# Altium footprint library vtg regulator using TPS793.PcbLib: 9 footprints
Each footprint in its own frame and in the unit in brackets; x right, y up, seen from the top. Pads: shape width x height; smd on the part's side, far side on the other; paste and mask are expansions set on the pad; w line width, h text height; cw(c..) or ccw(c..) is an arc to the next point about the centre after c.
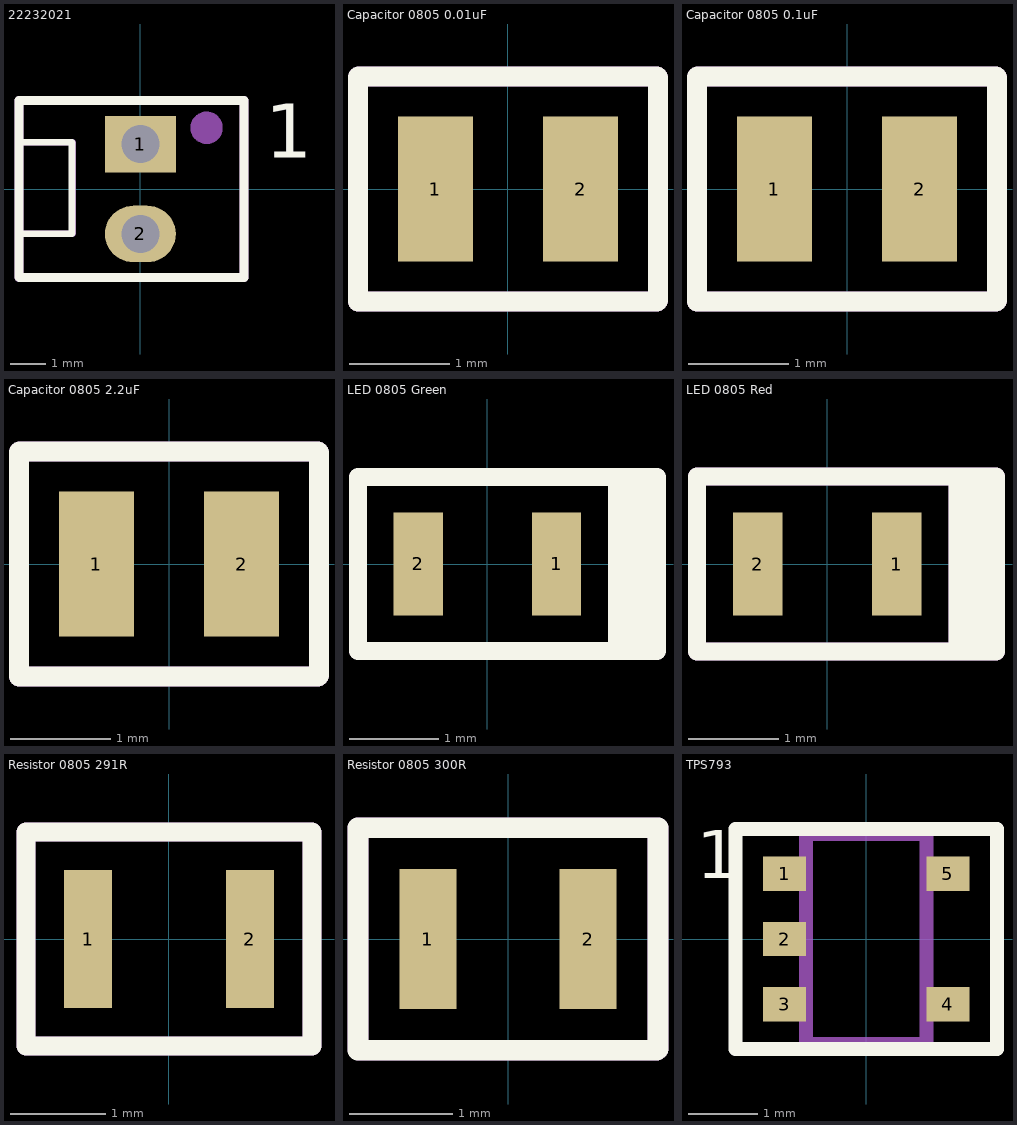
[diagram p0: the footprints below, top view; thin cyan lines are the x and y axes]

## 22232021 [mm]
pads (2):
  rect 2x1.6 hole 1.07 mask+0.102: 1(0,1.27)
  oval 2x1.6 hole 1.07 mask+0.102: 2(0,-1.27)
Top Overlay:
  lines w0.2: -3.43,-1.27 -1.93,-1.256 -1.93,1.316 -3.43,1.33
  lines w0.254: -3.43,-2.49 -3.423,-2.497 2.93,-2.497 2.93,2.497 -3.43,2.497 -3.43,-2.49
  text "1" at 3.524,0.884 h1.52
Mechanical 29:
  circle w0.508: c1.87,1.73 r0.203
  lines w0.2: -3.42,-1.27 -1.92,-1.256 -1.92,1.316 -3.42,1.33
  lines w0.254: -3.43,-2.497 2.93,-2.497 2.93,2.497 -3.43,2.497 -3.43,-2.497
  text ".Designator" at -3.33,3.363 h0.7
3D body "Connector header 1X2 vertical (22232021).stp": height 10.68, standoff -3.54, extent -3.429,-2.434 2.921,2.494

## Capacitor 0805 0.01uF [mm]
pads (2):
  rect 0.75x1.45 smd: 1(-0.725,0) 2(0.725,0)
Top Overlay:
  lines w0.2: -1.5,-1.125 1.489,-1.125 1.5,-1.114 1.5,1.117 1.492,1.125 -1.494,1.125 -1.5,1.119 -1.5,-1.125
Mechanical 29:
  lines w0.2: -1.5,-1.125 1.489,-1.125 1.5,-1.114 1.5,1.117 1.492,1.125 -1.494,1.125 -1.5,1.119 -1.5,-1.125
  text ".Designator" at -1.67,1.403 h0.7
3D body "cap 0805 0.01uF Vishay (VJ0805Y103KXAAC).step": height 0.62, standoff -0.62, extent -1.003,-0.725 1.003,0.723

## Capacitor 0805 0.1uF [mm]
pads (2):
  rect 0.75x1.45 smd: 1(-0.725,0) 2(0.725,0)
Top Overlay:
  lines w0.2: -1.5,-1.125 -1.5,1.119 -1.494,1.125 1.492,1.125 1.5,1.117 1.5,-1.114 1.489,-1.125 -1.5,-1.125
Mechanical 29:
  lines w0.2: -1.5,-1.125 -1.5,1.119 -1.494,1.125 1.492,1.125 1.5,1.117 1.5,-1.114 1.489,-1.125 -1.5,-1.125
  text ".Designator" at -1.5,1.463 h0.7
3D body "cap 0805 0.1uF (VJ0805Y104KXAAT).step": height 0.63, standoff -0.63, extent -1,-0.725 1,0.725

## Capacitor 0805 2.2uF [mm]
pads (2):
  rect 0.75x1.45 smd: 1(-0.725,0) 2(0.725,0)
Top Overlay:
  lines w0.2: -1.5,-1.125 -1.5,1.119 -1.494,1.125 1.492,1.125 1.5,1.117 1.5,-1.114 1.489,-1.125 -1.5,-1.125
Mechanical 29:
  lines w0.2: -1.5,-1.125 -1.5,1.119 -1.494,1.125 1.492,1.125 1.5,1.117 1.5,-1.114 1.489,-1.125 -1.5,-1.125
  text ".Designator" at -1.75,1.503 h0.7
3D body "cap 0805 2.2uF yageo.step": height 1.45, standoff 0, extent -1.105,-0.724 1.105,0.724

## LED 0805 Green [mm]
pads (2):
  rect 0.55x1.15 smd: 1(0.775,0) 2(-0.775,0)
Top Overlay:
  rectangle: 1.48,-0.94 1.91,0.94
  lines w0.2: -1.45,-0.975 -1.45,0.975 ; -1.43,-0.975 1.9,-0.975 1.9,0.975 -1.43,0.975 ; 1.442,-0.975 1.45,-0.967 1.45,0.975 ; 1.47,-0.967 1.47,0.975
Mechanical 29:
  rectangle: 1.47,-0.93 1.9,0.95
  lines w0.2: -1.45,-0.97 -1.45,0.97 ; -1.43,-0.975 1.89,-0.975 1.89,0.975 -1.43,0.975 ; 1.46,-0.957 1.46,0.96
  text ".Designator" at -1.55,1.443 h0.7
3D body "LED 0805 Green (LTST-C171GKT).STEP": height 0.81, standoff 0.01, extent -1,-0.625 1,0.625

## LED 0805 Red [mm]
pads (2):
  rect 0.55x1.15 smd: 1(0.775,0) 2(-0.775,0)
Top Overlay:
  rectangle: 1.46,-0.94 1.89,0.94
  rectangle: 1.45,-0.97 1.46,0.94
  lines w0.2: 1.442,-0.975 1.45,-0.967 1.45,0.975 ; -1.45,-0.975 1.88,-0.975 1.88,0.975 -1.45,0.975 -1.45,-0.975
Mechanical 29:
  rectangle: 1.46,-0.94 1.89,0.94
  rectangle: 1.45,-0.97 1.46,0.94
  lines w0.2: 1.442,-0.975 1.45,-0.967 1.45,0.975 ; -1.45,-0.975 1.88,-0.975 1.88,0.975 -1.45,0.975 -1.45,-0.975
  text ".Designator" at -1.4,1.333 h0.7
3D body "LED 0805 Red (LTST-C171KRKT).step": height 0.81, standoff 0, extent -1.003,-0.622 1.003,0.622

## Resistor 0805 291R [mm]
pads (2):
  rect 0.5x1.45 smd: 1(-0.85,0) 2(0.85,0)
Top Overlay:
  lines w0.2: -1.5,-1.125 1.5,-1.125 1.5,1.125 -1.5,1.125 -1.5,-1.125
Mechanical 29:
  lines w0.2: -1.5,-1.125 1.5,-1.125 1.5,1.125 -1.5,1.125 -1.5,-1.125
  text ".Designator" at -1.5,1.433 h0.7
3D body "res 0805 291R KOA (RN73R2ATTD2910B25).step": height 0.61, standoff 0.01, extent -1,-0.625 1,0.625

## Resistor 0805 300R [mm]
pads (2):
  rect 0.55x1.35 smd: 1(-0.775,0) 2(0.775,0)
Top Overlay:
  lines w0.2: -1.45,1.075 -1.45,-1.074 -1.449,-1.075 1.439,-1.075 1.45,-1.064 1.45,1.075 -1.45,1.075 ; -1.45,1.075 -1.45,1.075
Mechanical 29:
  lines w0.2: -1.45,-1.065 -1.45,1.075 1.45,1.075 1.45,-1.064 1.439,-1.075 -1.44,-1.075 -1.45,-1.065
  text ".Designator" at -1.5,1.333 h0.7
3D body "res 0805 300R (RC0805JR-07300RL).step": height 0.71, standoff 0, extent -1.003,-0.597 1.003,0.597

## TPS793 [mm]
pads (5):
  rect 0.625x0.5 smd: 1(-1.187,0.95) 2(-1.187,0) 3(-1.187,-0.95) 4(1.188,-0.95) 5(1.188,0.95)
Top Overlay:
  lines w0.2: -1.9,-1.6 1.9,-1.6 1.9,1.6 -1.9,1.6 -1.9,-1.6
  text "1" at -2.46,0.88 h0.7
Mechanical 29:
  lines w0.2: -0.875,-1.525 0.875,-1.525 0.875,1.525 -0.875,1.525 -0.875,-1.525
  text "1" at -2.46,0.88 h0.7
  text ".Designator" at -1.86,2.163 h0.7
3D body "TPS79333DBVRQ1 SOT-23 (DBV0005A).stp": height 1.2, standoff 0, extent -1.4,-1.45 1.4,1.45